# Altium schematic symbol library SCH - POWER - SWITCHMODE - ANALOG LTC7803JMSE.SchLib: 1 symbol
Pins are listed as number, name and electrical type; pins without a type are passive.

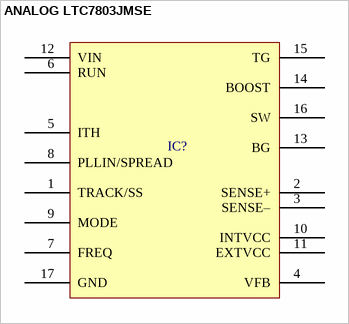
[diagram p0: symbol ANALOG LTC7803JMSE]

## ANALOG LTC7803JMSE
designator IC?
pins: 1 TRACK/SS, 2 SENSE+, 3 SENSE–, 4 VFB, 5 ITH, 6 RUN, 7 FREQ, 8 PLLIN/SPREAD, 9 MODE, 10 INTVCC, 11 EXTVCC, 12 VIN, 13 BG, 14 BOOST, 15 TG, 16 SW, 17 GND